# Altium integrated library Big_Library_Relay.IntLib: 4 symbols
Pins are listed as number, name and electrical type; pins without a type are passive.

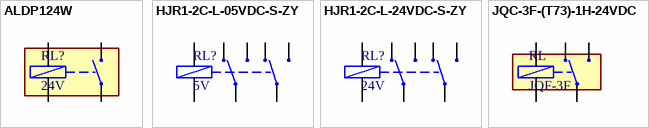
[diagram p0: symbols ALDP124W to JQC-3F-(T73)-1H-24VDC]

## ALDP124W
designator RL?, comment 24V
RELAY 2A 5VDC 2PNC TELECOM (DS2) TYPE TIANBO; Coil Current: 8mA; Contact Current: 5A; Contact Voltage: 120VAC/24VDC; Coil Power: 200mW; Coil Volts: 24V; ComponentLink1Description: Link; ComponentLink1URL: https://ozdisan.com/electromechanical-components/relays-and-relay-sockets/general-type-relays/ALDP124W/344403; Contact Type: 1 Form A; ComponentLink2Description: DataSheet; ComponentLink2URL: https://cdn.ozdisan.com/ETicaret_Dosya/417409_181202.pdf
footprint ALDP124W
pins: 1 A1, 2 C, 3 C, 4 A2

## HJR1-2C-L-05VDC-S-ZY
designator RL?, comment 5V
RELAY 2A 5VDC 2PNC TELECOM (DS2) TYPE TIANBO; Coil Current: 40mA; Coil Resistance2: 125R; Contact Voltage: 120VAC/24VDC; Coil Power: 200mW; Coil Volts: 5V; ComponentLink1Description: Link; ComponentLink1URL: https://ozdisan.com/electromechanical-components/relays-and-relay-sockets/general-type-relays/HJR1-2C-L-05VDC-S-ZY/349518; Contact Type: DPDT (2 Form C); Contact Current: 2A
footprint HJR1-2C-L
pins: 1 LEDK, 4 21, 6 19, 8 20, 9 21, 11 20, 13 22, 16 LEDK

## HJR1-2C-L-24VDC-S-ZY
designator RL?, comment 24V
24V 2A 2Z contact DPDT Telecom relay; Value: 24V
footprint HJR1-2C-L
pins: 1 LEDK, 4 21, 6 19, 8 20, 9 21, 11 20, 13 22, 16 LEDK

## JQC-3F-(T73)-1H-24VDC
designator RL, comment JQF-3F
RELAY POWER 10A 24VDC 1A PCB TYPE (JS1) 4PIN; Coil Current: 18mA; Coil Resistance: 1280R; Contact Voltage: 250VAC; Coil Voltage: 24VDC; Contact Current: 10A; Contact Type: SPST-NO (1 Form A)
footprint JQC-3F
pins: 1 A1, 2 A2, 3 COM, 4 NC, 5 NO